# EAGLE library part SMARTSOLAR_75/15 (library Solar battery)
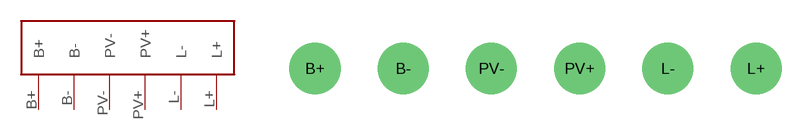
[diagram p0: symbol with the pads of SMARTSOLAR_75/15; footprint SMARTSOLAR_75/15]

Designator prefix -

## SMARTSOLAR_75/15  [SMARTSOLAR_75/15]
B+  B+
B-  B-
L+  L+
L-  L-
PV+  PV+
PV-  PV-

## Footprint SMARTSOLAR_75/15 (pad centres in mm)
drill 3.2 pad 5.5: B+ 0,0; B- 9.5,0; L+ 47.5,0; L- 38,0; PV+ 28.5,0; PV- 19,0